# Altium footprint library sounders.PcbLib: 9 footprints
Each footprint in its own frame and in the unit in brackets; x right, y up, seen from the top. Pads: shape width x height; smd on the part's side, far side on the other; paste and mask are expansions set on the pad; w line width, h text height; cw(c..) or ccw(c..) is an arc to the next point about the centre after c.
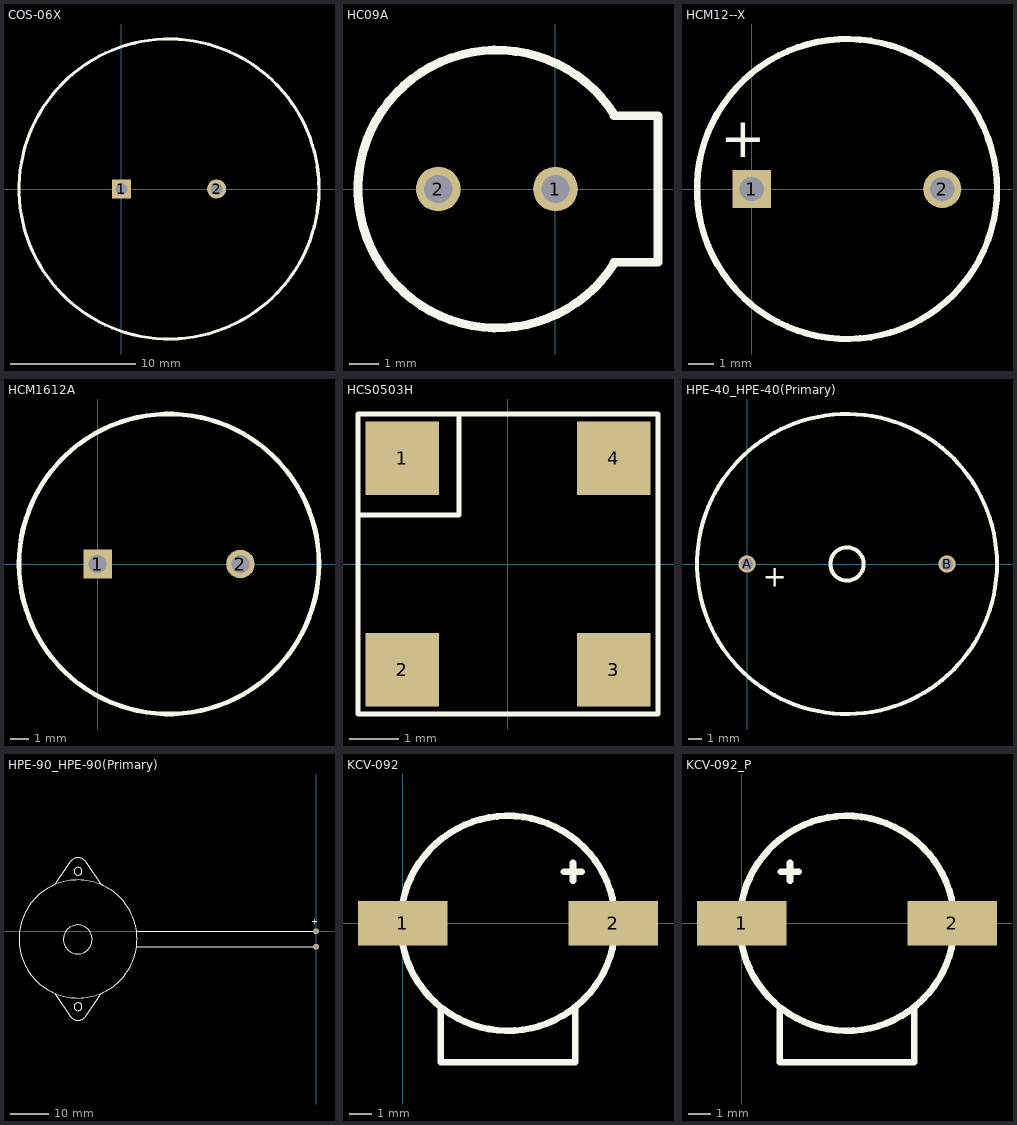
[diagram p0: the footprints below, top view; thin cyan lines are the x and y axes]

## COS-06X [mil]
pads (2):
  rect 60x60 hole 38: 1(0,0)
  round 60 hole 38: 2(300,0)
Top Overlay:
  circle w9.84: c150,0 r472.44

## HC09A [mil]
pads (2):
  round 60 hole 38: 1(0,0) 2(-157.48,0)
Top Overlay:
  lines w11.81: 78.74,-98.43 137.8,-98.43 137.8,0 137.8,98.43 78.74,98.43 ; 79.63,-98.96 cw(c-78.74,0) 79.63,98.96

## HCM12--X [mil]
pads (2):
  rect 60x60 hole 38: 1(0,0)
  round 60 hole 38: 2(300,0)
Top Overlay:
  circle w10: c150,0 r236.22
  text "+" at -50,50 h62.5

## HCM1612A [mil]
pads (2):
  rect 60x60 hole 38: 1(0,0)
  round 60 hole 38: 2(300,0)
Top Overlay:
  circle w10: c150,0 r314.96

## HCS0503H [mm]
pads (4):
  rect 1.5x1.5 smd: 1(-2.15,2.15) 2(-2.15,-2.15) 3(2.15,-2.15) 4(2.15,2.15)
Top Overlay:
  lines w0.1: -3.05,1 -1,1 -1,3.05 ; -3.05,-3.05 -3.05,3.05 3.05,3.05 3.05,-3.05 -3.05,-3.05
3D body "User_Library-hcs05h_1.STEP": height 2.5, standoff 0, extent -2.8,-2.8 2.8,2.8

## HPE-40_HPE-40(Primary) [mm]
pads (2):
  round 1.3 hole 0.9: A(0,0) B(15,0)
Top Overlay:
  circle w0.3: c7.5,0 r11.25
  circle w0.3: c7.5,0 r1.25
  text "+" at 1.182,-1.714 h1.59

## HPE-90_HPE-90(Primary) [mil]
pads (2):
  round 60 hole 38: A(0,0) B(0,-157.48)
Top Overlay:
  circle w11.81: c-2421.26,-767.72 r39.37
  circle w11.81: c-2421.26,610.24 r39.37
  circle w11.81: c-2421.26,610.24 r39.37
  circle w11.81: c-2424.02,-82.68 r147.27
  circle w11.81: c-2421.26,-78.74 r600.39
  lines w11.81: -2657.48,-629.92 -2500,-866.14 ; -2657.48,472.44 -2500,708.66 ; -2501.08,-863.91 ccw(c-2421.26,-809.06) -2341.92,-864.61 ; -2501.08,706.43 cw(c-2421.26,651.57) -2341.92,707.13 ; -2342.52,-866.14 -2185.04,-629.92 ; -2342.52,708.66 -2185.04,472.44 ; -1822.83,-157.48 0,-157.48 ; -1822.83,0 0,0
  text "+" at -51.18,65.35 h62.5

## KCV-092 [mm]
pads (2):
  rect 4x2 smd: 1(0,0) 2(9.4,0)
Top Overlay:
  circle w0.3: c4.7,0 r4.8
  lines w0.3: 1.7,-3.75 1.7,-6.2 4.7,-6.2 7.7,-6.2 7.7,-3.75 ; 7.2,2.3 7.9,2.3 8,2.3 ; 7.6,1.9 7.6,2.3 7.6,2.7
3D body "Buzzer_KCV-092.STEP": height 3.2, standoff 0.05, extent -0.8,-6.5 10.2,4.5

## KCV-092_P [mm]
pads (2):
  rect 4x2 smd: 1(0,0) 2(9.4,0)
Top Overlay:
  circle w0.3: c4.7,0 r4.8
  lines w0.3: 1.7,-3.75 1.7,-6.2 4.7,-6.2 7.7,-6.2 7.7,-3.75 ; 1.75,2.3 2.45,2.3 2.55,2.3 ; 2.15,1.9 2.15,2.3 2.15,2.7
3D body "Buzzer_KCV-092.STEP": height 3.2, standoff 0.05, extent -0.8,-6.5 10.2,4.5